# EAGLE library part 74LVC4066D_QUAD_BILATERAL_SWITCH (library SparkFun-IC-Logic)
Nexperia Quad Bilateral Switch The 74LVC4066 is a high-speed Si-gate CMOS device. The 74LVC4066 provides four single pole, single-throw analog switch functions. Each switch has two input/output terminals (nY and nZ) and an active HIGH enable input (nE). When nE is LOW, the analog switch is turned off. Schmitt-trigger action at the enable inputs makes the circuit tolerant of slower input rise and fall times across the entire VCC range from 1.65 V to 5.5 V. Datasheet <https://assets.nexperia.com/documents/data-sheet/74LVC4066.pdf>
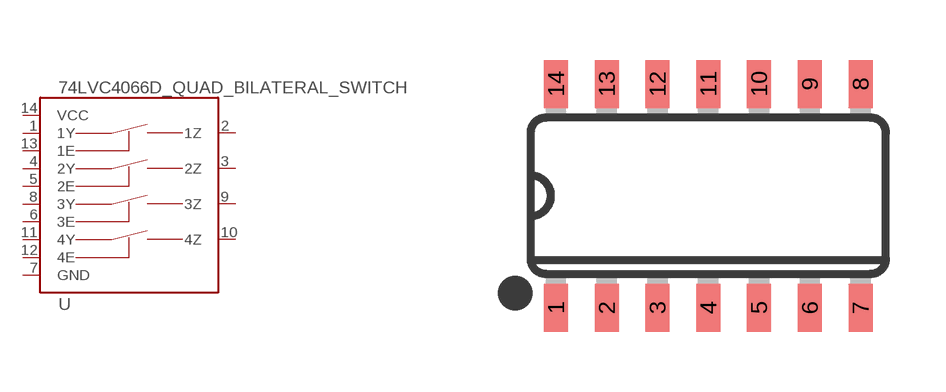
[diagram p8: symbol with the pads of SO14; footprint SO14]

Designator prefix U

## 74LVC4066D_QUAD_BILATERAL_SWITCH (PROD_ID: IC-13944)  [SO14]
1  1Y
2  1Z
3  2Z
4  2Y
5  2E
6  3E
7  GND
8  3Y
9  3Z
10  4Z
11  4Y
12  4E
13  1E
14  VCC

## Footprint SO14 (pad centres in mm)
smd 0.6 x 1.2: 1 -3.175,-2.8; 2 -1.905,-2.8; 3 -0.635,-2.8; 4 0.635,-2.8; 5 1.905,-2.8; 6 3.175,-2.8; 7 4.445,-2.8; 8 4.445,2.8; 9 3.175,2.8; 10 1.905,2.8; 11 0.635,2.8; 12 -0.635,2.8; 13 -1.905,2.8; 14 -3.175,2.8